# EAGLE library part SFMC-120-X1-XX-D (library UsefulConnectors)
0.050" DOUBLE ROW SOCKET STRIP ASSEMBLY. MANUFACTURER: SAMTEC.
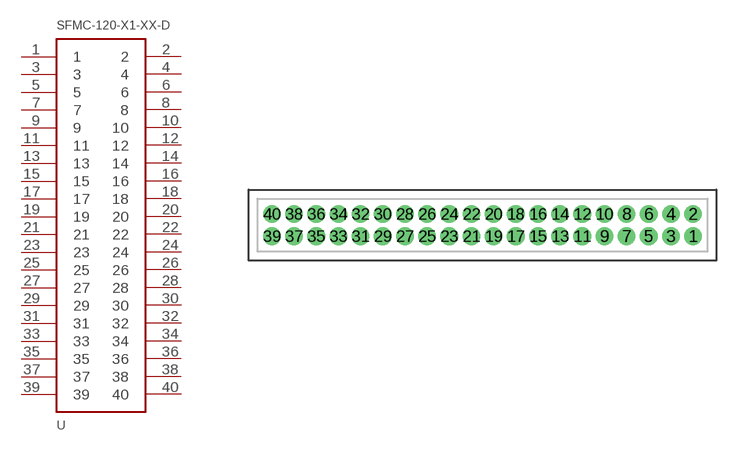
[diagram p11: symbol with the pads of SFMC-120-X1-XX-D; footprint SFMC-120-X1-XX-D]

Designator prefix -

## SFMC-120-X1-XX-D  [SFMC-120-X1-XX-D]
1  1
2  2
3  3
4  4
5  5
6  6
7  7
8  8
9  9
10  10
11  11
12  12
13  13
14  14
15  15
16  16
17  17
18  18
19  19
20  20
21  21
22  22
23  23
24  24
25  25
26  26
27  27
28  28
29  29
30  30
31  31
32  32
33  33
34  34
35  35
36  36
37  37
38  38
39  39
40  40

## Footprint SFMC-120-X1-XX-D (pad centres in mm)
0.050" DOUBLE ROW SOCKET STRIP ASSEMBLY. MANUFACTURER: SAMTEC.
drill 0.5 pad 0.813: 1 10.16,-0.635; 2 10.16,0.635; 3 8.89,-0.635; 4 8.89,0.635; 5 7.62,-0.635; 6 7.62,0.635; 7 6.35,-0.635; 8 6.35,0.635; 9 5.08,-0.635; 10 5.08,0.635; 11 3.81,-0.635; 12 3.81,0.635; 13 2.54,-0.635; 14 2.54,0.635; 15 1.27,-0.635; 16 1.27,0.635; 17 0,-0.635; 18 0,0.635; 19 -1.27,-0.635; 20 -1.27,0.635; 21 -2.54,-0.635; 22 -2.54,0.635; 23 -3.81,-0.635; 24 -3.81,0.635; 25 -5.08,-0.635; 26 -5.08,0.635; 27 -6.35,-0.635; 28 -6.35,0.635; 29 -7.62,-0.635; 30 -7.62,0.635; 31 -8.89,-0.635; 32 -8.89,0.635; 33 -10.16,-0.635; 34 -10.16,0.635; 35 -11.43,-0.635; 36 -11.43,0.635; 37 -12.7,-0.635; 38 -12.7,0.635; 39 -13.97,-0.635; 40 -13.97,0.635